# Altium footprint library pcb_checked.PcbLib: 89 footprints (part 4 of 6)
Each footprint in its own frame and in the unit in brackets; x right, y up, seen from the top. Pads: shape width x height; smd on the part's side, far side on the other; paste and mask are expansions set on the pad; w line width, h text height; cw(c..) or ccw(c..) is an arc to the next point about the centre after c.
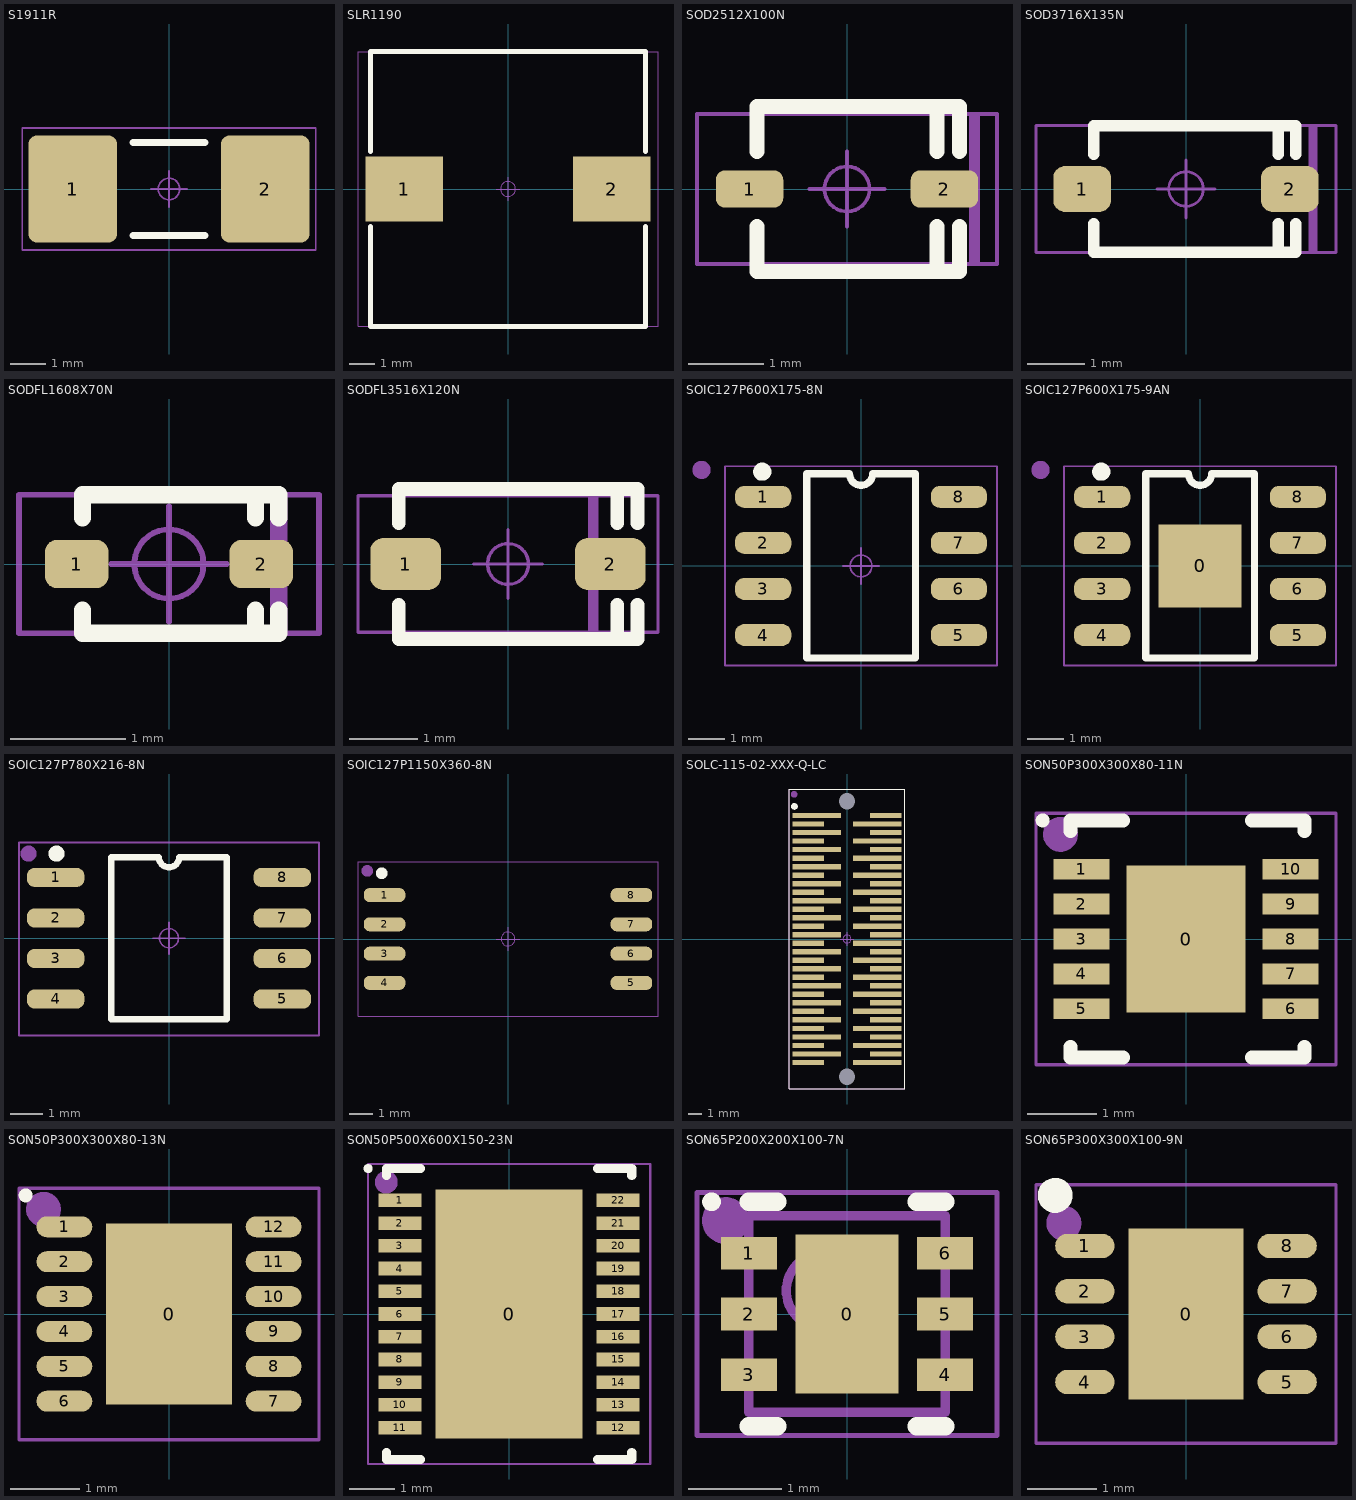
[diagram p3: the footprints below, top view; thin cyan lines are the x and y axes]

## S1911R [mm]
height 0.97
pads (2):
  rrect20% 2.48x3 smd: 1(-2.69,0) 2(2.69,0)
Top Overlay:
  lines w0.2: -1,-1.3 1,-1.3 ; -1,1.3 1,1.3
Mechanical 15:
  circle w0.05: c0,0 r0.3
  lines w0.05: -0.5,0 0.5,0 ; 0,-0.5 0,0.5 ; -4.1,-1.7 4.1,-1.7 4.1,1.7 -4.1,1.7 -4.1,-1.7
  text ".Designator" at -3.9,-1.5 h1
3D body: height 0.97, standoff 0, extent -3.5,-1.32 3.5,1.3

## SLR1190 [mm]
height 9
pads (2):
  rect 3.1x2.6 smd: 1(-4.15,0) 2(4.15,0)
Top Overlay:
  lines w0.2: -5.5,-1.5 -5.5,-5.5 5.5,-5.5 5.5,-1.5 ; -5.5,1.5 -5.5,5.5 5.5,5.5 5.5,1.5
Mechanical 15:
  circle w0.05: c0,0 r0.3
  lines w0.05: -0.475,0 0.475,0 ; 0,-0.475 0,0.475 ; -6,-5.5 6,-5.5 6,5.5 -6,5.5 -6,-5.5
  text ".Designator" at -5.8,-5.35 h1
3D body: height 9, standoff 0, extent -5.6,-5.15 5.6,5.15

## SOD2512X100N [mm] "SOD-323/SC-76; 2 Leads; Body 1.7 x 1.3 mm, (LxW)"
height 1
pads (2):
  rrect50% 0.9x0.5 smd: 1(-1.3,0) 2(1.3,0)
Top Overlay:
  lines w0.2: -1.2,-0.5 -1.2,-1.1 1.3,-1.1 ; -1.2,0.5 -1.2,1.1 1.3,1.1 ; 1.2,-0.5 1.2,-1.1 1.5,-1.1 1.5,-0.5 ; 1.2,0.5 1.2,1.1 1.5,1.1 1.5,0.5
Mechanical 15:
  circle w0.05: c0,0 r0.3
  lines w0.05: -0.5,0 0.5,0 ; 0,-0.5 0,0.5 ; 1.65,-1 1.65,1 ; 1.7,-1 1.7,1 ; 1.75,-1 1.75,1 ; -2,-1 -2,1 2,1 2,-1 -2,-1
  text ".Designator" at -1.95,-0.95 h1
3D body: height 1, standoff 0, extent -1.016,-0.889 1.016,0.889

## SOD3716X135N [mm] "SOD-123; SOD Diode;2.70mm W X 1.60mm L X 1.35mm H body"
height 1.35
pads (2):
  rrect50% 1x0.8 smd: 1(-1.8,0) 2(1.8,0)
Top Overlay:
  lines w0.2: -1.6,-0.6 -1.6,-1.1 1.7,-1.1 ; -1.6,0.6 -1.6,1.1 1.7,1.1 ; 1.6,-0.6 1.6,-1.1 1.9,-1.1 1.9,-0.6 ; 1.6,0.6 1.6,1.1 1.9,1.1 1.9,0.6
Mechanical 15:
  circle w0.05: c0,0 r0.3
  lines w0.05: -0.5,0 0.5,0 ; 0,-0.5 0,0.5 ; 2.15,-1.1 2.15,1.1 ; 2.2,-1.1 2.2,1.1 ; 2.25,-1.1 2.25,1.1 ; -2.6,-1.1 -2.6,1.1 2.6,1.1 2.6,-1.1 -2.6,-1.1
  text ".Designator" at -2.35,-0.95 h1
3D body: height 1.35, standoff 0, extent -1.4,-0.9 1.4,0.9

## SODFL1608X70N [mm] "SODFL Diode,;1.20mm W X 0.80mm L X 0.70mm H body"
height 0.7
pads (2):
  rrect50% 0.55x0.42 smd: 1(-0.8,0) 2(0.8,0)
Top Overlay:
  lines w0.15: -0.75,-0.4 -0.75,-0.6 0.75,-0.6 ; -0.75,0.4 -0.75,0.6 0.75,0.6 ; 0.75,-0.4 0.75,-0.6 ; 0.75,0.4 0.75,0.6 ; 0.95,-0.4 0.95,-0.6 0.75,-0.6 ; 0.95,0.4 0.95,0.6 0.75,0.6
Mechanical 15:
  circle w0.05: c0,0 r0.3
  lines w0.05: -0.5,0 0.5,0 ; 0,-0.5 0,0.5 ; 0.9,-0.6 0.9,0.6 ; 0.95,-0.6 0.95,0.6 ; 1,-0.6 1,0.6 ; -1.3,-0.6 -1.3,0.6 1.3,0.6 1.3,-0.6 -1.3,-0.6
  text ".Designator" at -1.1,-0.45 h0.7
3D body: height 0.7, standoff 0, extent -0.65,-0.45 0.65,0.45

## SODFL3516X120N [mm] "SODFL Diode, 2.60mm W X 1.60mm L X 1.20mm H body"
height 1.2
pads (2):
  rrect50% 1.04x0.76 smd: 1(-1.5,0) 2(1.5,0)
Top Overlay:
  lines w0.2: -1.6,-0.6 -1.6,-1.1 1.6,-1.1 ; -1.6,0.6 -1.6,1.1 1.6,1.1 ; 1.6,-0.6 1.6,-1.1 ; 1.6,0.6 1.6,1.1 ; 1.9,-0.6 1.9,-1.1 1.6,-1.1 ; 1.9,0.6 1.9,1.1 1.6,1.1
Mechanical 15:
  circle w0.05: c0,0 r0.3
  lines w0.05: -0.5,0 0.5,0 ; 0,-0.5 0,0.5 ; 1.2,-1 1.2,1 ; 1.25,-1 1.25,1 ; 1.3,-1 1.3,1 ; -2.2,-1 2.2,-1 2.2,1 -2.2,1 -2.2,-1
  text ".Designator" at -2.35,-0.95 h1
3D body: height 1.2, standoff 0, extent -1.4,-0.9 1.4,0.9

## SOIC127P600X175-8N [mm]
height 1.75
pads (8):
  rrect80% 1.55x0.6 smd: 1(-2.7,1.905) 2(-2.7,0.635) 3(-2.7,-0.635) 4(-2.7,-1.905) 5(2.7,-1.905) 6(2.7,-0.635) 7(2.7,0.635) 8(2.7,1.905)
Top Overlay:
  circle w0.25: c-2.725,2.6 r0.125
  lines w0.2: -1.5,-2.54 -1.5,2.54 -0.318,2.54 ccw(c0,2.54) 0.318,2.54 1.5,2.54 1.5,-2.54 -1.5,-2.54
Mechanical 15:
  circle w0.25: c-4.4,2.65 r0.125
  circle w0.05: c0,0 r0.3
  lines w0.05: -0.5,0 0.5,0 ; 0,-0.5 0,0.5 ; -3.75,-2.75 3.75,-2.75 3.75,2.75 -3.75,2.75 -3.75,-2.75
  text ".Designator" at -4.55,-2.85 h1
3D body: height 1.75, standoff 0, extent -2,-2.5 2,2.5

## SOIC127P600X175-9AN [mm]
height 1.75
pads (9):
  rect 2.3x2.3 smd paste-100: 0(0,0)
  rrect80% 1.55x0.6 smd: 1(-2.7,1.905) 2(-2.7,0.635) 3(-2.7,-0.635) 4(-2.7,-1.905) 5(2.7,-1.905) 6(2.7,-0.635) 7(2.7,0.635) 8(2.7,1.905)
Top Overlay:
  circle w0.25: c-2.725,2.6 r0.125
  lines w0.2: -1.5,-2.54 1.5,-2.54 1.5,2.54 0.318,2.54 cw(c0,2.54) -0.318,2.54 -1.5,2.54 -1.5,-2.54
Top Paste:
  rectangle: -1,0.1 -0.1,1
  rectangle: 0.1,0.1 1,1
  rectangle: -1,-1 -0.1,-0.1
  rectangle: 0.1,-1 1,-0.1
Mechanical 15:
  circle w0.05: c0,0 r0.3
  circle w0.25: c-4.4,2.65 r0.125
  lines w0.05: -0.5,0 0.5,0 ; 0,-0.5 0,0.5 ; -3.75,-2.75 -3.75,2.75 3.75,2.75 3.75,-2.75 -3.75,-2.75
  text ".Designator" at -4.55,-2.85 h1
3D body: height 1.75, standoff 0, extent -2,-2.5 2,2.5

## SOIC127P780X216-8N [mm]
height 2.16
pads (8):
  rrect80% 1.8x0.6 smd: 1(-3.55,1.905) 2(-3.55,0.635) 3(-3.55,-0.635) 4(-3.55,-1.905) 5(3.55,-1.905) 6(3.55,-0.635) 7(3.55,0.635) 8(3.55,1.905)
Top Overlay:
  circle w0.25: c-3.525,2.65 r0.125
  lines w0.2: -1.815,-2.54 -1.815,2.54 -0.318,2.54 ccw(c0,2.54) 0.318,2.54 1.815,2.54 1.815,-2.54 -1.815,-2.54
Mechanical 15:
  circle w0.05: c0,0 r0.3
  circle w0.25: c-4.4,2.65 r0.125
  lines w0.05: -0.5,0 0.5,0 ; 0,-0.5 0,0.5 ; -4.7,-3.05 4.7,-3.05 4.7,3 -4.7,3 -4.7,-3.05
  text ".Designator" at -4.55,-2.85 h1
3D body: height 2.16, standoff 0, extent -2.7,-2.7 2.7,2.7

## SOIC127P1150X360-8N [mm]
height 3.6
pads (8):
  rrect80% 1.8x0.6 smd: 1(-5.35,1.905) 2(-5.35,0.635) 3(-5.35,-0.635) 4(-5.35,-1.905) 5(5.35,-1.905) 6(5.35,-0.635) 7(5.35,0.635) 8(5.35,1.905)
Top Overlay:
  circle w0.25: c-5.475,2.85 r0.125
Mechanical 15:
  circle w0.25: c-6.1,2.95 r0.125
  circle w0.05: c0,0 r0.3
  lines w0.05: -0.5,0 0.5,0 ; 0,-0.5 0,0.5 ; -6.5,-3.35 6.5,-3.35 6.5,3.35 -6.5,3.35 -6.5,-3.35
  text ".Designator" at -6.1,-3 h1
3D body: height 3.6, standoff 0, extent -3.4,-3 3.4,3

## SOLC-115-02-XXX-Q-LC [mm] "SAMTEC SOLC Connector, 4x15"
height 4.93
pads (62):
  rect 2.36x0.38 smd mask+0.051: A1(-2.883,8.572) A2(-2.883,7.302) A3(-2.883,6.032) A4(-2.883,4.763) A5(-2.883,3.492) A6(-2.883,2.222) A7(-2.883,0.953) A8(-2.883,-0.318) A9(-2.883,-1.587) A10(-2.883,-2.857) A11(-2.883,-4.127) A12(-2.883,-5.397) A13(-2.883,-6.667) A14(-2.883,-7.938) A15(-2.883,-9.207) D1(2.883,9.207) D2(2.883,7.938) D3(2.883,6.667) D4(2.883,5.397) D5(2.883,4.127) D6(2.883,2.857) D7(2.883,1.587) D8(2.883,0.318) D9(2.883,-0.953) D10(2.883,-2.222) D11(2.883,-3.492) D12(2.883,-4.763) D13(2.883,-6.032) D14(2.883,-7.302) D15(2.883,-8.572)
  rect 3.63x0.38 smd mask+0.051: B1(-2.248,9.207) B2(-2.248,7.938) B3(-2.248,6.667) B4(-2.248,5.397) B5(-2.248,4.127) B6(-2.248,2.857) B7(-2.248,1.587) B8(-2.248,0.318) B9(-2.248,-0.953) B10(-2.248,-2.222) B11(-2.248,-3.492) B12(-2.248,-4.763) B13(-2.248,-6.032) B14(-2.248,-7.302) B15(-2.248,-8.572) C1(2.248,8.572) C2(2.248,7.302) C3(2.248,6.032) C4(2.248,4.763) C5(2.248,3.492) C6(2.248,2.222) C7(2.248,0.953) C8(2.248,-0.318) C9(2.248,-1.587) C10(2.248,-2.857) C11(2.248,-4.127) C12(2.248,-5.397) C13(2.248,-6.667) C14(2.248,-7.938) C15(2.248,-9.207)
  round 0 / inner round 0 / far side round 1.8 hole 1.2 unplated: H1(0,10.285) H2(0,-10.285)
Top Overlay:
  circle w0.25: c-3.925,9.9 r0.125
  lines w0.05: -4.3,-11.2 -4.3,11.2 4.3,11.2 4.3,-11.2 -4.3,-11.2
Mechanical 15:
  circle w0.05: c0,0 r0.3
  circle w0.25: c-3.95,10.8 r0.125
  lines w0.05: -0.5,0 0.5,0 ; 0,-0.5 0,0.5 ; -4.3,-11.2 -4.3,11.2 4.3,11.2 4.3,-11.2 -4.3,-11.2
  text ".Designator" at -4.1,-10.9 h1
3D body "SOLC-115-02-L-Q-LC.stp": height 4.06, standoff -1.91, extent -3.556,-10.79 3.556,10.8

## SON50P300X300X80-11N [mm] "SON,0.50mm,pitch;10 pin,3.00mm W X 3.00mm L X 0.80mm H body (w/thermal tab)"
height 0.8
pads (11):
  rect 1.7x2.1 smd paste-1.62: 0(0,0)
  rect 0.8x0.3 smd paste-0.07 mask+0.07: 1(-1.5,1) 2(-1.5,0.5) 3(-1.5,0) 4(-1.5,-0.5) 5(-1.5,-1) 6(1.5,-1) 7(1.5,-0.5) 8(1.5,0) 9(1.5,0.5) 10(1.5,1)
Top Overlay:
  circle w0.1: c-2.055,1.7 r0.05
  lines w0.2: -1.655,-1.55 -1.655,-1.7 -0.9,-1.7 ; -1.655,1.55 -1.655,1.7 -0.9,1.7 ; 0.945,-1.7 1.7,-1.7 1.7,-1.55 ; 0.945,1.7 1.7,1.7 1.7,1.55
Top Paste:
  rectangle: -0.7,0.1 0.7,0.9
  region: 0.7,-0.1 -0.7,-0.1 -0.7,-0.9 0.7,-0.9
Mechanical 15:
  circle w0.25: c-1.8,1.5 r0.125
  circle w0.05: c0,0 r0.3
  lines w0.05: -0.5,0 0.5,0 ; 0,-0.5 0,0.5 ; -2.15,-1.8 -2.15,1.8 2.15,1.8 2.15,-1.8 -2.15,-1.8
  text ".Designator" at -1.95,-1.6 h1
3D body: height 0.8, standoff 0, extent -1.5,-1.5 1.5,1.5

## SON50P300X300X80-13N [mm] "SON,0.50mm,pitch;12 pin,3.00mm W X 3.00mm L X 0.80mm H body (w/thermal tab)"
height 0.8
pads (13):
  rect 1.8x2.6 smd paste-1.62: 0(0,0)
  oval 0.8x0.3 smd paste-0.07 mask+0.07: 1(-1.5,1.25) 2(-1.5,0.75) 3(-1.5,0.25) 4(-1.5,-0.25) 5(-1.5,-0.75) 6(-1.5,-1.25) 7(1.5,-1.25) 8(1.5,-0.75) 9(1.5,-0.25) 10(1.5,0.25) 11(1.5,0.75) 12(1.5,1.25)
Top Overlay:
  circle w0.1: c-2.055,1.7 r0.05
Top Paste:
  rectangle: -0.75,0.15 0.75,1.15
  region: 0.75,-0.15 -0.75,-0.15 -0.75,-1.15 0.75,-1.15
Mechanical 15:
  circle w0.25: c-1.8,1.5 r0.125
  circle w0.05: c0,0 r0.3
  lines w0.05: -0.5,0 0.5,0 ; 0,-0.5 0,0.5 ; -2.15,-1.8 -2.15,1.8 2.15,1.8 2.15,-1.8 -2.15,-1.8
  text ".Designator" at -1.95,-1.6 h1
3D body: height 0.8, standoff 0, extent -1.5,-1.5 1.5,1.5

## SON50P500X600X150-23N [mm] "SON, 22-Leads, Body 6.00x5.00mm, Pitch 0.50mm, Thermal Pad 5.48x3.24mm, IPC Medium Density"
height 1.5
pads (23):
  rect 3.24x5.48 smd paste-1.62: 0(0,0)
  rect 0.95x0.3 smd paste-0.07 mask+0.07: 1(-2.4,2.5) 2(-2.4,2) 3(-2.4,1.5) 4(-2.4,1) 5(-2.4,0.5) 6(-2.4,0) 7(-2.4,-0.5) 8(-2.4,-1) 9(-2.4,-1.5) 10(-2.4,-2) 11(-2.4,-2.5) 12(2.4,-2.5) 13(2.4,-2) 14(2.4,-1.5) 15(2.4,-1) 16(2.4,-0.5) 17(2.4,0) 18(2.4,0.5) 19(2.4,1) 20(2.4,1.5) 21(2.4,2) 22(2.4,2.5)
Top Overlay:
  circle w0.1: c-3.1,3.2 r0.05
  lines w0.2: -2.7,-3.05 -2.7,-3.2 -1.945,-3.2 ; -2.7,3.05 -2.7,3.2 -1.945,3.2 ; 1.945,-3.2 2.7,-3.2 2.7,-3.05 ; 1.945,3.2 2.7,3.2 2.7,3.05
Top Paste:
  rectangle: 0.15,-2.4 1.45,-1
  rectangle: 0.15,-0.7 1.45,0.7
  rectangle: 0.15,1 1.45,2.4
  rectangle: -1.45,-2.4 -0.15,-1
  rectangle: -1.45,-0.7 -0.15,0.7
  rectangle: -1.45,1 -0.15,2.4
Mechanical 15:
  circle w0.05: c0,0 r0.3
  circle w0.25: c-2.7,2.9 r0.125
  lines w0.05: -0.5,0 0.5,0 ; 0,-0.5 0,0.5 ; -3.105,-3.3 3.105,-3.3 3.105,3.3 -3.105,3.3 -3.105,-3.3
  text ".Designator" at -2.9,-2.9 h1
3D body "SON50P500X150_HS-23N.step": height 1.5, standoff 0, extent -2.6,-3.05 2.6,3.05

## SON65P200X200X100-7N [mm] "SON,0.65mm,pitch;6 pin,2.00mm W X 2.00mm L X 0.80mm H body (w/thermal tab)"
height 0.8
pads (7):
  rect 1.1x1.7 smd paste-1.62 mask+0.07: 0(0,0)
  rect 0.6x0.35 smd paste-0.05 mask+0.07: 1(-1.05,0.65) 2(-1.05,0) 3(-1.05,-0.65) 4(1.05,-0.65) 5(1.05,0) 6(1.05,0.65)
Top Overlay:
  circle w0.1: c-1.45,1.2 r0.05
  lines w0.2: -1.05,-1.2 -0.745,-1.2 ; -1.05,1.2 -0.745,1.2 ; 0.745,-1.2 1.05,-1.2 ; 0.745,1.2 1.05,1.2
Top Paste:
  rectangle: -0.4,-0.7 0.4,0.7
Mechanical 13:
  circle w0.1: c-0.25,0.25 r0.4
  lines w0.1: -1.05,-1.05 -1.05,1.05 1.05,1.05 1.05,-1.05 -1.05,-1.05
Mechanical 15:
  circle w0.25: c-1.3,1 r0.125
  circle w0.05: c0,0 r0.3
  lines w0.05: -0.5,0 0.5,0 ; 0,-0.5 0,0.5 ; -1.605,-1.3 -1.605,1.3 1.605,1.3 1.605,-1.3 -1.605,-1.3
  text ".Designator" at -1.4,-1.1 h1
3D body "SON65P200X80_HS-7N.step": height 0.8, standoff 0, extent -1.051,-1.05 1.051,1.05

## SON65P300X300X100-9N [mm]
height 1
pads (9):
  rect 1.65x2.45 smd: 0(0,0)
  oval 0.85x0.35 smd: 1(-1.45,0.975) 2(-1.45,0.325) 3(-1.45,-0.325) 4(-1.45,-0.975) 5(1.45,-0.975) 6(1.45,-0.325) 7(1.45,0.325) 8(1.45,0.975)
Top Overlay:
  circle w0.25: c-1.875,1.7 r0.125
Mechanical 15:
  circle w0.25: c-1.75,1.3 r0.125
  circle w0.05: c0,0 r0.3
  lines w0.05: -0.5,0 0.5,0 ; 0,-0.5 0,0.5 ; -2.15,-1.85 -2.15,1.85 2.15,1.85 2.15,-1.85 -2.15,-1.85
  text ".Designator" at -2,-1.45 h1
3D body: height 1, standoff 0, extent -1.5,-1.5 1.5,1.5